# EAGLE library part TPA3116 (library common)
TPA3116D2 15-W, 30-W, 50-W Filter-Free Class-D Stereo Amplifier Family With AM Avoidance
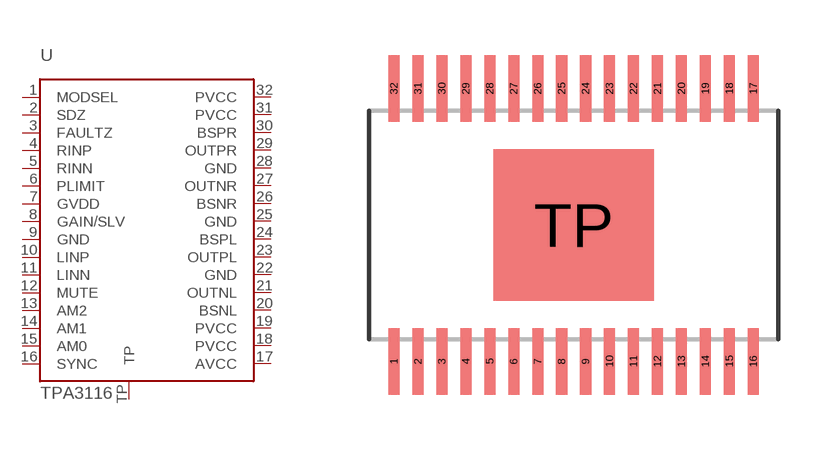
[diagram p24: symbol with the pads of R-PDSO-32; footprint R-PDSO-32]

Designator prefix U

## TPA3116  [R-PDSO-32]
1  MODSEL
2  SDZ
3  FAULTZ
4  RINP
5  RINN
6  PLIMIT
7  GVDD
8  GAIN/SLV
9  GND
10  LINP
11  LINN
12  MUTE
13  AM2
14  AM1
15  AM0
16  SYNC
17  AVCC
18  PVCC
19  PVCC
20  BSNL
21  OUTNL
22  GND
23  OUTPL
24  BSPL
25  GND
26  BSNR
27  OUTNR
28  GND
29  OUTPR
30  BSPR
31  PVCC
32  PVCC
TP  TP

## Footprint R-PDSO-32 (pad centres in mm)
smd 0.3 x 1.8: 1 -4.875,-3.7; 2 -4.225,-3.7; 3 -3.575,-3.7; 4 -2.925,-3.7; 5 -2.275,-3.7; 6 -1.625,-3.7; 7 -0.975,-3.7; 8 -0.325,-3.7; 9 0.325,-3.7; 10 0.975,-3.7; 11 1.625,-3.7; 12 2.275,-3.7; 13 2.925,-3.7; 14 3.575,-3.7; 15 4.225,-3.7; 16 4.875,-3.7; 17 4.875,3.7; 18 4.225,3.7; 19 3.575,3.7; 20 2.925,3.7; 21 2.275,3.7; 22 1.625,3.7; 23 0.975,3.7; 24 0.325,3.7; 25 -0.325,3.7; 26 -0.975,3.7; 27 -1.625,3.7; 28 -2.275,3.7; 29 -2.925,3.7; 30 -3.575,3.7; 31 -4.225,3.7; 32 -4.875,3.7
smd 4.36 x 4.11: TP 0,0